# Altium schematic symbol library GL865_V4.SchLib: 1 symbol
Pins are listed as number, name and electrical type; pins without a type are passive.

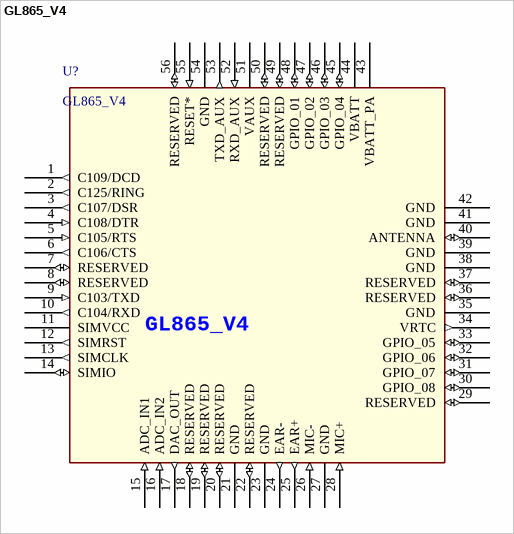
[diagram p0: symbol GL865_V4]

## GL865_V4
designator U?
footprint GL865_V4
pins: 1 C109/DCD (out), 2 C125/RING (out), 3 C107/DSR (out), 4 C108/DTR (in), 5 C105/RTS (in), 6 C106/CTS (out), 7 RESERVED (io), 8 RESERVED (io), 9 C103/TXD (in), 10 C104/RXD (out), 11 SIMVCC (power), 12 SIMRST (out), 13 SIMCLK (out), 14 SIMIO (io), 15 ADC_IN1 (in), 16 ADC_IN2 (in), 17 DAC_OUT (out), 18 RESERVED (io), 19 RESERVED (io), 20 RESERVED (io), 21 GND (power), 22 RESERVED (io), 23 GND (power), 24 EAR- (out), 25 EAR+ (out), 26 MIC- (in), 27 GND (power), 28 MIC+ (in), 29 RESERVED (io), 30 GPIO_08 (io), 31 GPIO_07 (io), 32 GPIO_06 (io), 33 GPIO_05 (io), 34 VRTC (out), 35 GND (power), 36 RESERVED (io), 37 RESERVED (io), 38 GND (power), 39 GND (power), 40 ANTENNA (io), 41 GND (power), 42 GND (power), 43 VBATT_PA (power), 44 VBATT (power), 45 GPIO_04 (io), 46 GPIO_03 (io), 47 GPIO_02 (io), 48 GPIO_01 (io), 49 RESERVED (io), 50 RESERVED (io), 51 VAUX (power), 52 RXD_AUX (in), 53 TXD_AUX (out), 54 GND (power), 55 RESET* (in), 56 RESERVED (io)